# EAGLE library part UMH3N (library nixiemisc)
UMT6
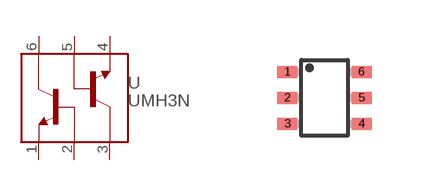
[diagram p6: symbol with the pads of UMT6; footprint UMT6]

Designator prefix U

## UMH3NUMT6  [UMT6]
1  E1  out
2  B1  in
3  C2  in
4  E2  out
5  B2  in
6  C1  in

## Footprint UMT6 (pad centres in mm)
UMT6 Package EIAJ: SC-88 Source: http://www.rohm.com/products/databook/tr/pdf/umx1n.pdf
smd 0.5 x 0.3: 1 -0.925,0.65; 2 -0.925,0; 3 -0.925,-0.65; 4 0.925,-0.65; 5 0.925,0; 6 0.925,0.65